# Altium schematic symbol library NASCO MICROCONTROLLERS.SchLib: 3 symbols
Pins are listed as number, name and electrical type; pins without a type are passive.

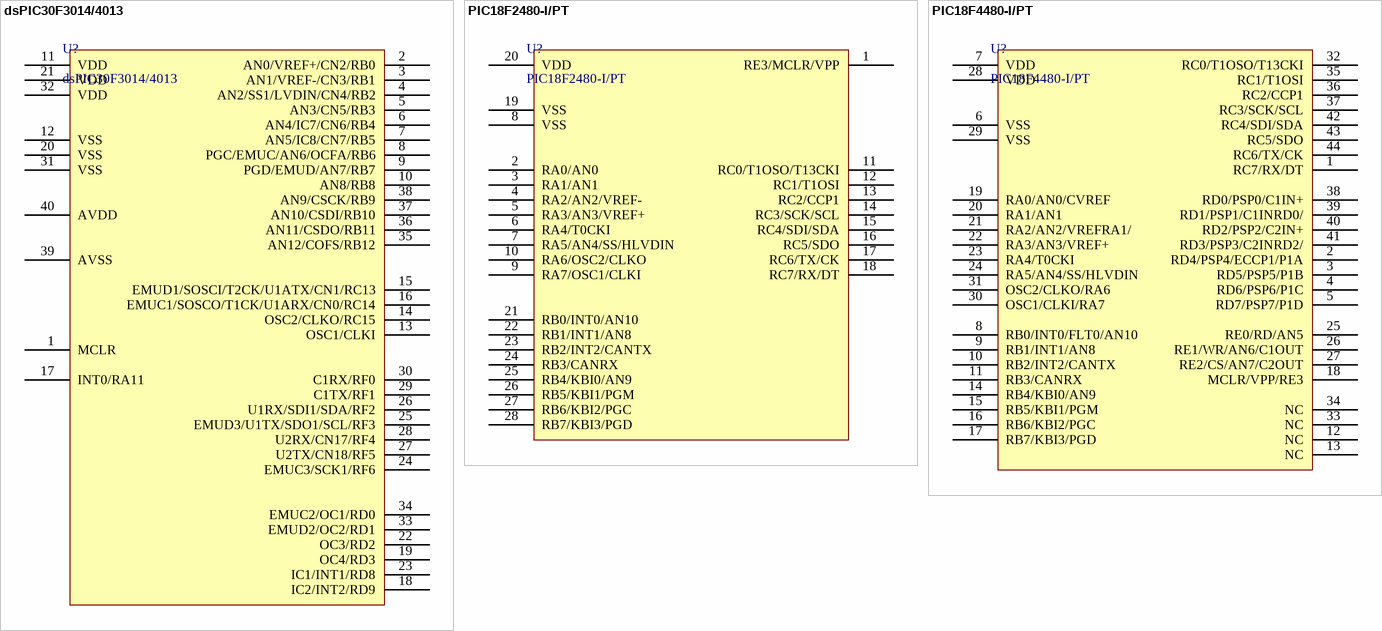
[diagram p0: symbols dsPIC30F3014/4013 to PIC18F4480-I/PT]

## dsPIC30F3014/4013
designator U?
pins: 1 MCLR, 2 AN0/VREF+/CN2/RB0, 3 AN1/VREF-/CN3/RB1, 4 AN2/SS1/LVDIN/CN4/RB2, 5 AN3/CN5/RB3, 6 AN4/IC7/CN6/RB4, 7 AN5/IC8/CN7/RB5, 8 PGC/EMUC/AN6/OCFA/RB6, 9 PGD/EMUD/AN7/RB7, 10 AN8/RB8, 11 VDD, 12 VSS, 13 OSC1/CLKI, 14 OSC2/CLKO/RC15, 15 EMUD1/SOSCI/T2CK/U1ATX/CN1/RC13, 16 EMUC1/SOSCO/T1CK/U1ARX/CN0/RC14, 17 INT0/RA11, 18 IC2/INT2/RD9, 19 OC4/RD3, 20 VSS, 21 VDD, 22 OC3/RD2, 23 IC1/INT1/RD8, 24 EMUC3/SCK1/RF6, 25 EMUD3/U1TX/SDO1/SCL/RF3, 26 U1RX/SDI1/SDA/RF2, 27 U2TX/CN18/RF5, 28 U2RX/CN17/RF4, 29 C1TX/RF1, 30 C1RX/RF0, 31 VSS, 32 VDD, 33 EMUD2/OC2/RD1, 34 EMUC2/OC1/RD0, 35 AN12/COFS/RB12, 36 AN11/CSDO/RB11, 37 AN10/CSDI/RB10, 38 AN9/CSCK/RB9, 39 AVSS, 40 AVDD

## PIC18F2480-I/PT
designator U?
footprint SOIC28_M (28-Pin Small Outline Integrated Circuit 1.27 mm Pitch, IPC Low Density)
pins: 1 RE3/MCLR/VPP, 2 RA0/AN0, 3 RA1/AN1, 4 RA2/AN2/VREF-, 5 RA3/AN3/VREF+, 6 RA4/T0CKI, 7 RA5/AN4/SS/HLVDIN, 8 VSS, 9 RA7/OSC1/CLKI, 10 RA6/OSC2/CLKO, 11 RC0/T1OSO/T13CKI, 12 RC1/T1OSI, 13 RC2/CCP1, 14 RC3/SCK/SCL, 15 RC4/SDI/SDA, 16 RC5/SDO, 17 RC6/TX/CK, 18 RC7/RX/DT, 19 VSS, 20 VDD, 21 RB0/INT0/AN10, 22 RB1/INT1/AN8, 23 RB2/INT2/CANTX, 24 RB3/CANRX, 25 RB4/KBI0/AN9, 26 RB5/KBI1/PGM, 27 RB6/KBI2/PGC, 28 RB7/KBI3/PGD

## PIC18F4480-I/PT
designator U?
footprint TQFP44_L (44-Pin Plastic Thin Quad Flat Pack (TFQP44), IPC High Density)
pins: 1 RC7/RX/DT, 2 RD4/PSP4/ECCP1/P1A, 3 RD5/PSP5/P1B, 4 RD6/PSP6/P1C, 5 RD7/PSP7/P1D, 6 VSS, 7 VDD, 8 RB0/INT0/FLT0/AN10, 9 RB1/INT1/AN8, 10 RB2/INT2/CANTX, 11 RB3/CANRX, 12 NC, 13 NC, 14 RB4/KBI0/AN9, 15 RB5/KBI1/PGM, 16 RB6/KBI2/PGC, 17 RB7/KBI3/PGD, 18 MCLR/VPP/RE3, 19 RA0/AN0/CVREF, 20 RA1/AN1, 21 RA2/AN2/VREFRA1/, 22 RA3/AN3/VREF+, 23 RA4/T0CKI, 24 RA5/AN4/SS/HLVDIN, 25 RE0/RD/AN5, 26 RE1/WR/AN6/C1OUT, 27 RE2/CS/AN7/C2OUT, 28 VDD, 29 VSS, 30 OSC1/CLKI/RA7, 31 OSC2/CLKO/RA6, 32 RC0/T1OSO/T13CKI, 33 NC, 34 NC, 35 RC1/T1OSI, 36 RC2/CCP1, 37 RC3/SCK/SCL, 38 RD0/PSP0/C1IN+, 39 RD1/PSP1/C1INRD0/, 40 RD2/PSP2/C2IN+, 41 RD3/PSP3/C2INRD2/, 42 RC4/SDI/SDA, 43 RC5/SDO, 44 RC6/TX/CK